# EAGLE library part SR4M4012_TE (library WFR2020)
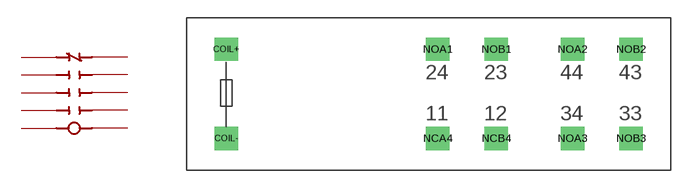
[diagram p1: symbol with the pads of SR4M4012_FOOT; footprint SR4M4012_FOOT]

Designator prefix -

## SR4M4012_TE  [SR4M4012_FOOT]
COIL+  COIL+
COIL-  COIL-
NCA4  NCA4
NCB4  NCB4
NOA1  NOA1
NOA2  NOA2
NOA3  NOA3
NOB1  NOB1
NOB2  NOB2
NOB3  NOB3

## Footprint SR4M4012_FOOT (pad centres in mm)
drill 1.3 pad 2 square: COIL+ 0,7.6; COIL- 0,0; NCA4 18.05,0; NCB4 23.05,0; NOA1 18.05,7.6; NOA2 29.55,7.6; NOA3 29.55,0; NOB1 23.05,7.6; NOB2 34.55,7.6; NOB3 34.55,0